# EAGLE library part RFM9X (library we-chip)
HopeRF RFM9xW LoRa Module RFM95W 868/915 MHz (SX1276 compatible) RFM96W 433/470 MHz (SX1276 compatible)
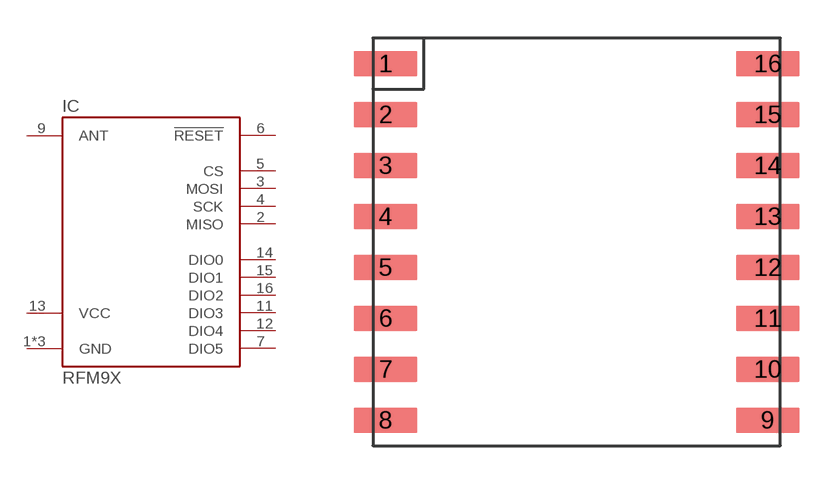
[diagram p42: symbol with the pads of RFM9X; footprint RFM9X]

Designator prefix IC

## RFM9XW  [RFM9X]
1  GND  pwr
2  MISO  out
3  MOSI  in
4  SCK  in
5  CS  in
6  !RESET  in
7  DIO5
8  GND  pwr
9  ANT
10  GND  pwr
11  DIO3
12  DIO4
13  VCC  pwr
14  DIO0
15  DIO1
16  DIO2

## Footprint RFM9X (pad centres in mm)
smd 2.5 x 1: 1 -7.5,7; 2 -7.5,5; 3 -7.5,3; 4 -7.5,1; 5 -7.5,-1; 6 -7.5,-3; 7 -7.5,-5; 8 -7.5,-7; 9 7.5,-7; 10 7.5,-5; 11 7.5,-3; 12 7.5,-1; 13 7.5,1; 14 7.5,3; 15 7.5,5; 16 7.5,7